# Altium schematic symbol library DJAHNG_Library_1.SchLib: 58 symbols
Pins are listed as number, name and electrical type; pins without a type are passive.

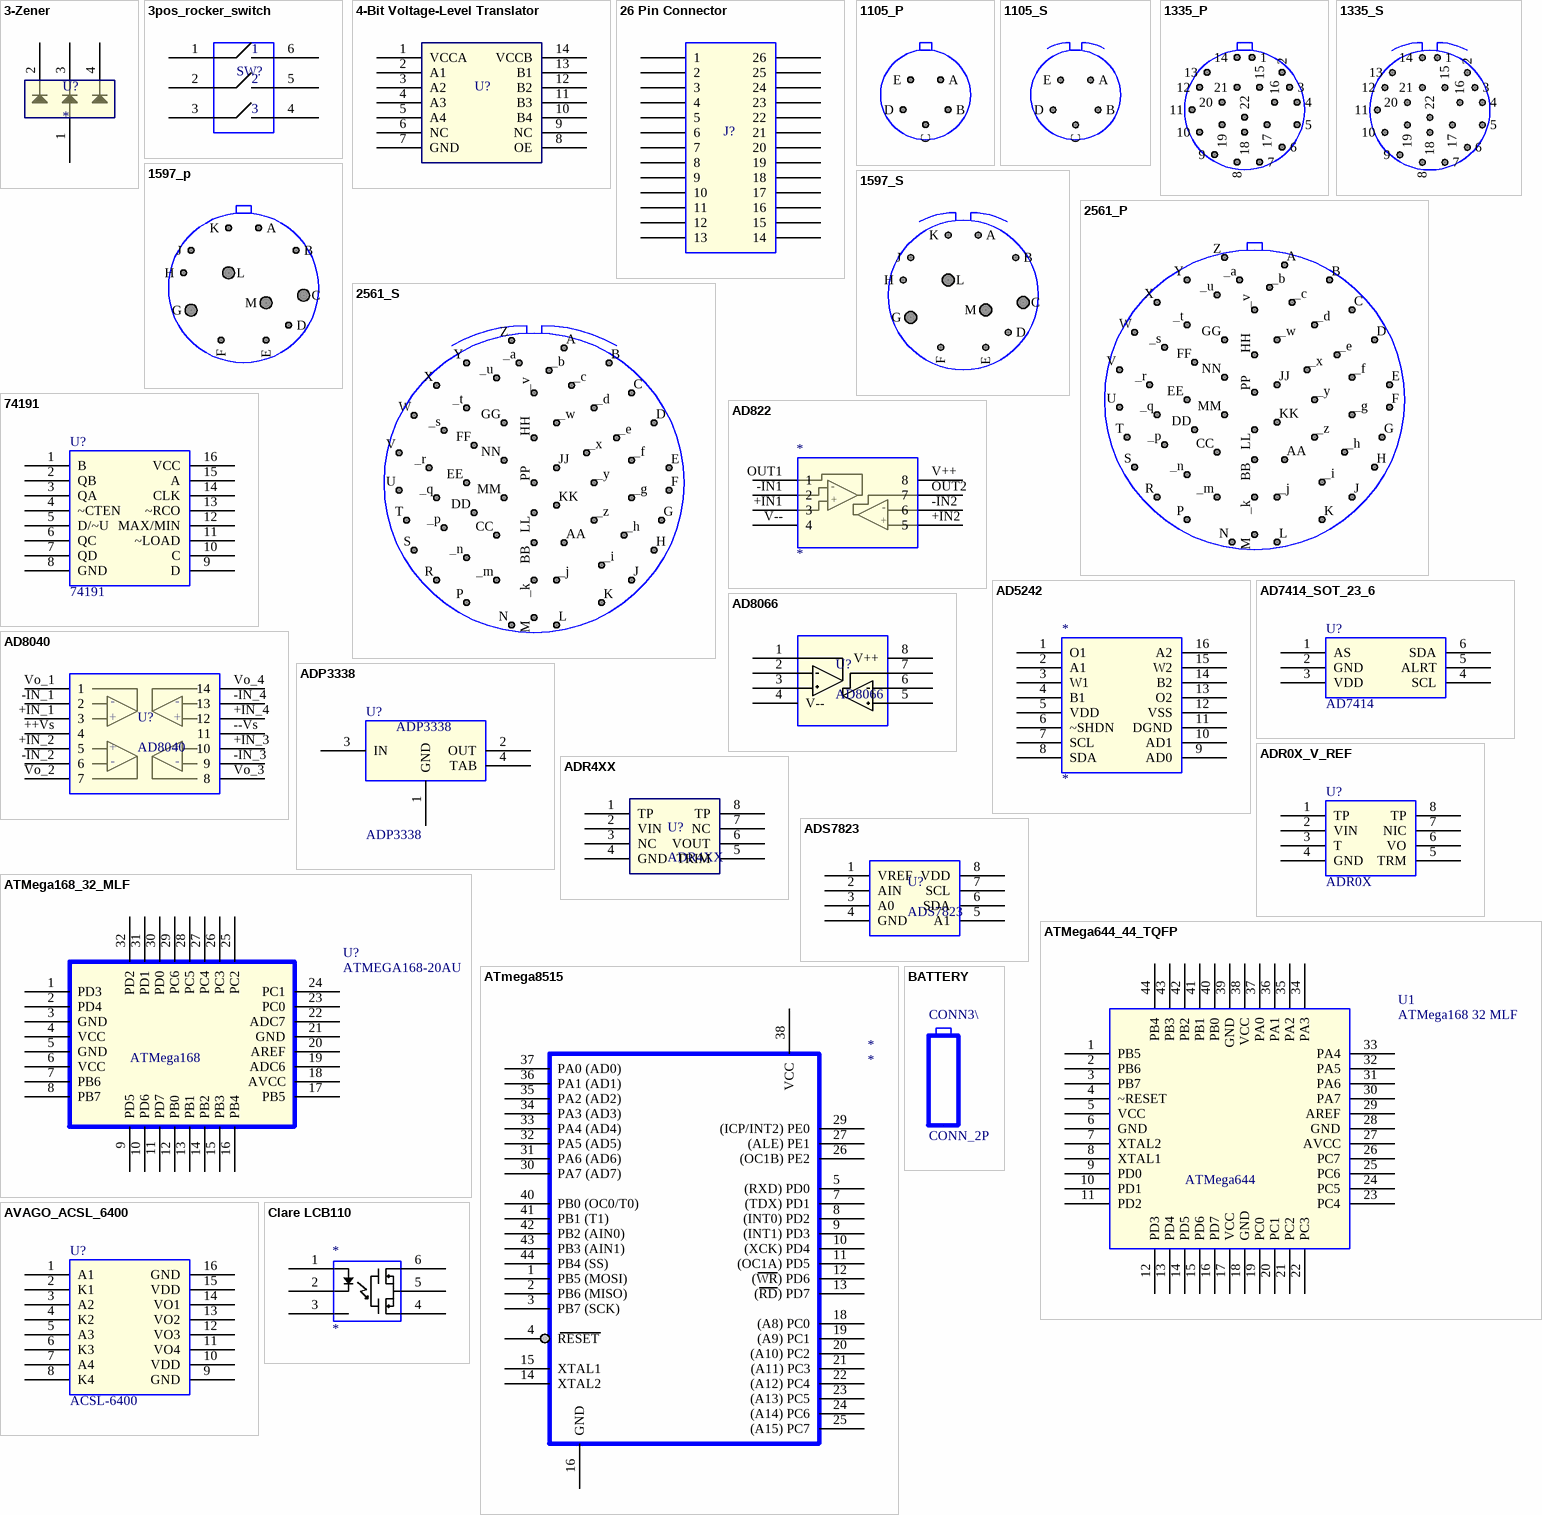
[diagram p0: symbols 3-Zener to Clare LCB110]

## 3-Zener
designator U?
footprint SOT-143 (Footprint not found)
pins: 1 A, 2 K1, 3 K2, 4 K3

## 3pos_rocker_switch
designator SW?, comment 3POS_ROCKER  (value not drawn)
Right: 20; Bottom: 20
pins: 1, 2, 3, 4, 5, 6

## 4-Bit Voltage-Level Translator
designator U?, comment Voltage-Level Translator  (value not drawn)
4-bit voltage level translator
footprint SOIC14_M (14-Pin Small Outline Integrated Circuit 1.27 mm Pitch, IPC Low Density)
pins: 1 VCCA, 2 A1, 3 A2, 4 A3, 5 A4, 6 NC, 7 GND, 8 OE, 9 NC, 10 B4, 11 B3, 12 B2, 13 B1, 14 VCCB

## 26 Pin Connector
designator J?
Right: 20; Bottom: 20
pins: 1, 2, 3, 4, 5, 6, 7, 8, 9, 10, 11, 12, 13, 14, 15, 16, 17, 18, 19, 20, 21, 22, 23, 24, 25, 26

## 1105_P
designator TITLEBLOCK, comment TITLEBLOCK  (value not drawn)  (no BOM)
LCOGT Titleblock
pins: A, B, C, D, E

## 1105_S
designator TITLEBLOCK, comment TITLEBLOCK  (value not drawn)  (no BOM)
LCOGT Titleblock
pins: A, B, C, D, E

## 1335_P
designator TITLEBLOCK, comment TITLEBLOCK  (value not drawn)  (no BOM)
LCOGT Titleblock
pins: 1, 2, 3, 4, 5, 6, 7, 8, 9, 10, 11, 12, 13, 14, 15, 16, 17, 18, 19, 20, 21, 22

## 1335_S
designator TITLEBLOCK, comment TITLEBLOCK  (value not drawn)  (no BOM)
LCOGT Titleblock
pins: 1, 2, 3, 4, 5, 6, 7, 8, 9, 10, 11, 12, 13, 14, 15, 16, 17, 18, 19, 20, 21, 22

## 1597_p
designator TITLEBLOCK, comment TITLEBLOCK  (value not drawn)  (no BOM)
LCOGT Titleblock
pins: A, B, C, D, E, F, G, H, J, K, L, M

## 1597_S
designator TITLEBLOCK, comment TITLEBLOCK  (value not drawn)  (no BOM)
LCOGT Titleblock
pins: A, B, C, D, E, F, G, H, J, K, L, M

## 2561_P
designator TITLEBLOCK, comment TITLEBLOCK  (value not drawn)  (no BOM)
LCOGT Titleblock
pins: _a, _b, _c, _d, _e, _f, _g, _h, _i, _j, _k, _m, _n, _p, _q, _r, _s, _t, _u, _v, _w, _x, _y, _z, A, AA, B, BB, C, CC, D, DD, E, EE, F, FF, G, GG, H, HH, J, JJ, K, KK, L, LL, M, MM, N, NN, P, PP, R, S, T, U, V, W, X, Y, Z

## 2561_S
designator TITLEBLOCK, comment TITLEBLOCK  (value not drawn)  (no BOM)
LCOGT Titleblock
pins: _a, _b, _c, _d, _e, _f, _g, _h, _i, _j, _k, _m, _n, _p, _q, _r, _s, _t, _u, _v, _w, _x, _y, _z, A, AA, B, BB, C, CC, D, DD, E, EE, F, FF, G, GG, H, HH, J, JJ, K, KK, L, LL, M, MM, N, NN, P, PP, R, S, T, U, V, W, X, Y, Z

## 74191
designator U?
Synchronous up/down counter with down/up mode control; Right: 10; Bottom: 20
pins: 1 B, 2 QB, 3 QA, 4 ~CTEN, 5 D/~U, 6 QC, 7 QD, 8 GND, 9 D, 10 C, 11 ~LOAD, 12 MAX/MIN, 13 ~RCO, 14 CLK, 15 A, 16 VCC

## AD822
designator *
Right: 20; Bottom: 30
pins: +IN1 3, +IN2 5, -IN1 2, -IN2 6, OUT1 1, OUT2 7, V++ 8, V-- 4
text: -; +

## AD5242
designator *
Right: 20; Bottom: 30
pins: 1 O1, 2 A1, 3 W1, 4 B1, 5 VDD, 6 ~SHDN, 7 SCL, 8 SDA, 9 AD0, 10 AD1, 11 DGND, 12 VSS, 13 O2, 14 B2, 15 W2, 16 A2

## AD7414_SOT_23_6
designator U?, comment AD7414
0.5 C Accurate, 10 Bit Digital Temperature Sensor, SOT-23-6; Right: 20; Bottom: 10
pins: 1 AS, 2 GND, 3 VDD, 4 SCL, 5 ALRT, 6 SDA

## AD8040
designator U?
Analog Devices AD8040 -- Quad Low Power, High Speed Rail-to-Rail Input/Output Amplifier; Right: 20; Bottom: 20
pins: ++Vs 4, +IN_1 3, +IN_2 5, +IN_3 10, +IN_4 12, --Vs 11, -IN_1 2, -IN_2 6, -IN_3 9, -IN_4 13, Vo_1 1, Vo_2 7, Vo_3 8, Vo_4 14
text: -; +

## AD8066
designator U?
Analog Devices High Performance, 145 MHz FastFET Op Amp; Right: 20; Bottom: 20
pins: 1, 2, 3, 4 V--, 5, 6, 7, 8 V++

## ADP3338
designator U?
High Accuracy, Ultralow I_Q, 1 A, anyCAP Low Dropout Regulator; Right: 20; Bottom: 20
footprint SOT223 (SOT-223/SC-73; 4 Leads; Body 6.7 x 7.3 mm, inc. leads (LxW max))
pins: 1 GND, 2 OUT, 3 IN, 4 TAB

## ADR0X_V_REF
designator U?, comment ADR0X
Ultracompact, Precision 10V, 5V, 2.5V, 3V Voltage References; Right: 30; Bottom: 110
pins: 1 TP, 2 VIN, 3 T, 4 GND, 5 TRM, 6 VO, 7 NIC, 8 TP

## ADR4XX
designator U?
Analog Devices ADR4XX Ultralow Noise, LDO XFET Voltage Reference
footprint D008_M (8-Pin Small Outline Integrated Circuit 1.27 mm Pitch, IPC Low Density)
pins: 1 TP, 2 VIN, 3 NC, 4 GND, 5 TRIM, 6 VOUT, 7 NC, 8 TP

## ADS7823
designator U?
TI ADS7823 12-bit I2C 1 channel ADC; Right: 20; Bottom: 20
pins: 1 VREF, 2 AIN, 3 A0, 4 GND, 5 A1, 6 SDA, 7 SCL, 8 VDD

## ATMega168_32_MLF
designator U?, comment ATMEGA168-20AU
Right: 20; Bottom: 40
footprint TQFP32_M (32-Pin Thin Quad Flat Pack 0.8 mm Pitch, IPC Low Density)
pins: 1 PD3, 2 PD4, 3 GND, 4 VCC, 5 GND, 6 VCC, 7 PB6, 8 PB7, 9 PD5, 10 PD6, 11 PD7, 12 PB0, 13 PB1, 14 PB2, 15 PB3, 16 PB4, 17 PB5, 18 AVCC, 19 ADC6, 20 AREF, 21 GND, 22 ADC7, 23 PC0, 24 PC1, 25 PC2, 26 PC3, 27 PC4, 28 PC5, 29 PC6, 30 PD0, 31 PD1, 32 PD2
text: ATMega168

## ATMega644_44_TQFP
designator U1, comment ATMega168 32 MLF
Right: 20; Bottom: 40
pins: 1 PB5, 2 PB6, 3 PB7, 4 ~RESET, 5 VCC, 6 GND, 7 XTAL2, 8 XTAL1, 9 PD0, 10 PD1, 11 PD2, 12 PD3, 13 PD4, 14 PD5, 15 PD6, 16 PD7, 17 VCC, 18 GND, 19 PC0, 20 PC1, 21 PC2, 22 PC3, 23 PC4, 24 PC5, 25 PC6, 26 PC7, 27 AVCC, 28 GND, 29 AREF, 30 PA7, 31 PA6, 32 PA5, 33 PA4, 34 PA3, 35 PA2, 36 PA1, 37 PA0, 38 VCC, 39 GND, 40 PB0, 41 PB1, 42 PB2, 43 PB3, 44 PB4
text: ATMega644

## ATmega8515
designator *
footprint 44A_L (44-Pin Thin Quad Flat Pack 0.8 mm Pitch, IPC High Density)
pins: 1 PB5 (MOSI), 2 PB6 (MISO), 3 PB7 (SCK), 4 RESET, 5 (RXD) PD0, 6 NC hidden, 7 (TDX) PD1, 8 (INT0) PD2, 9 (INT1) PD3, 10 (XCK) PD4, 11 (OC1A) PD5, 12 (WR) PD6, 13 (RD) PD7, 14 XTAL2, 15 XTAL1, 16 GND, 17 NC hidden, 18 (A8) PC0, 19 (A9) PC1, 20 (A10) PC2, 21 (A11) PC3, 22 (A12) PC4, 23 (A13) PC5, 24 (A14) PC6, 25 (A15) PC7, 26 (OC1B) PE2, 27 (ALE) PE1, 28 NC hidden, 29 (ICP/INT2) PE0, 30 PA7 (AD7), 31 PA6 (AD6), 32 PA5 (AD5), 33 PA4 (AD4), 34 PA3 (AD3), 35 PA2 (AD2), 36 PA1 (AD1), 37 PA0 (AD0), 38 VCC, 39 NC hidden, 40 PB0 (OC0/T0), 41 PB1 (T1), 42 PB2 (AIN0), 43 PB3 (AIN1), 44 PB4 (SS)

## AVAGO_ACSL_6400
designator U?, comment ACSL-6400
Avago ACSL-6400 Quad Channel Optocoupler; Right: 20; Bottom: 30
pins: 1 A1, 2 K1, 3 A2, 4 K2, 5 A3, 6 K3, 7 A4, 8 K4, 9 GND, 10 VDD, 11 VO4, 12 VO3, 13 VO2, 14 VO1, 15 VDD, 16 GND

## BATTERY
designator CONN3\, comment CONN_2P
MFG: *; MFG PN: *
pins: 1, 2

## Clare LCB110
designator *
footprint DIP6_SMD
pins: 1 C+, 2 C-, 3 NC, 4, 5, 6

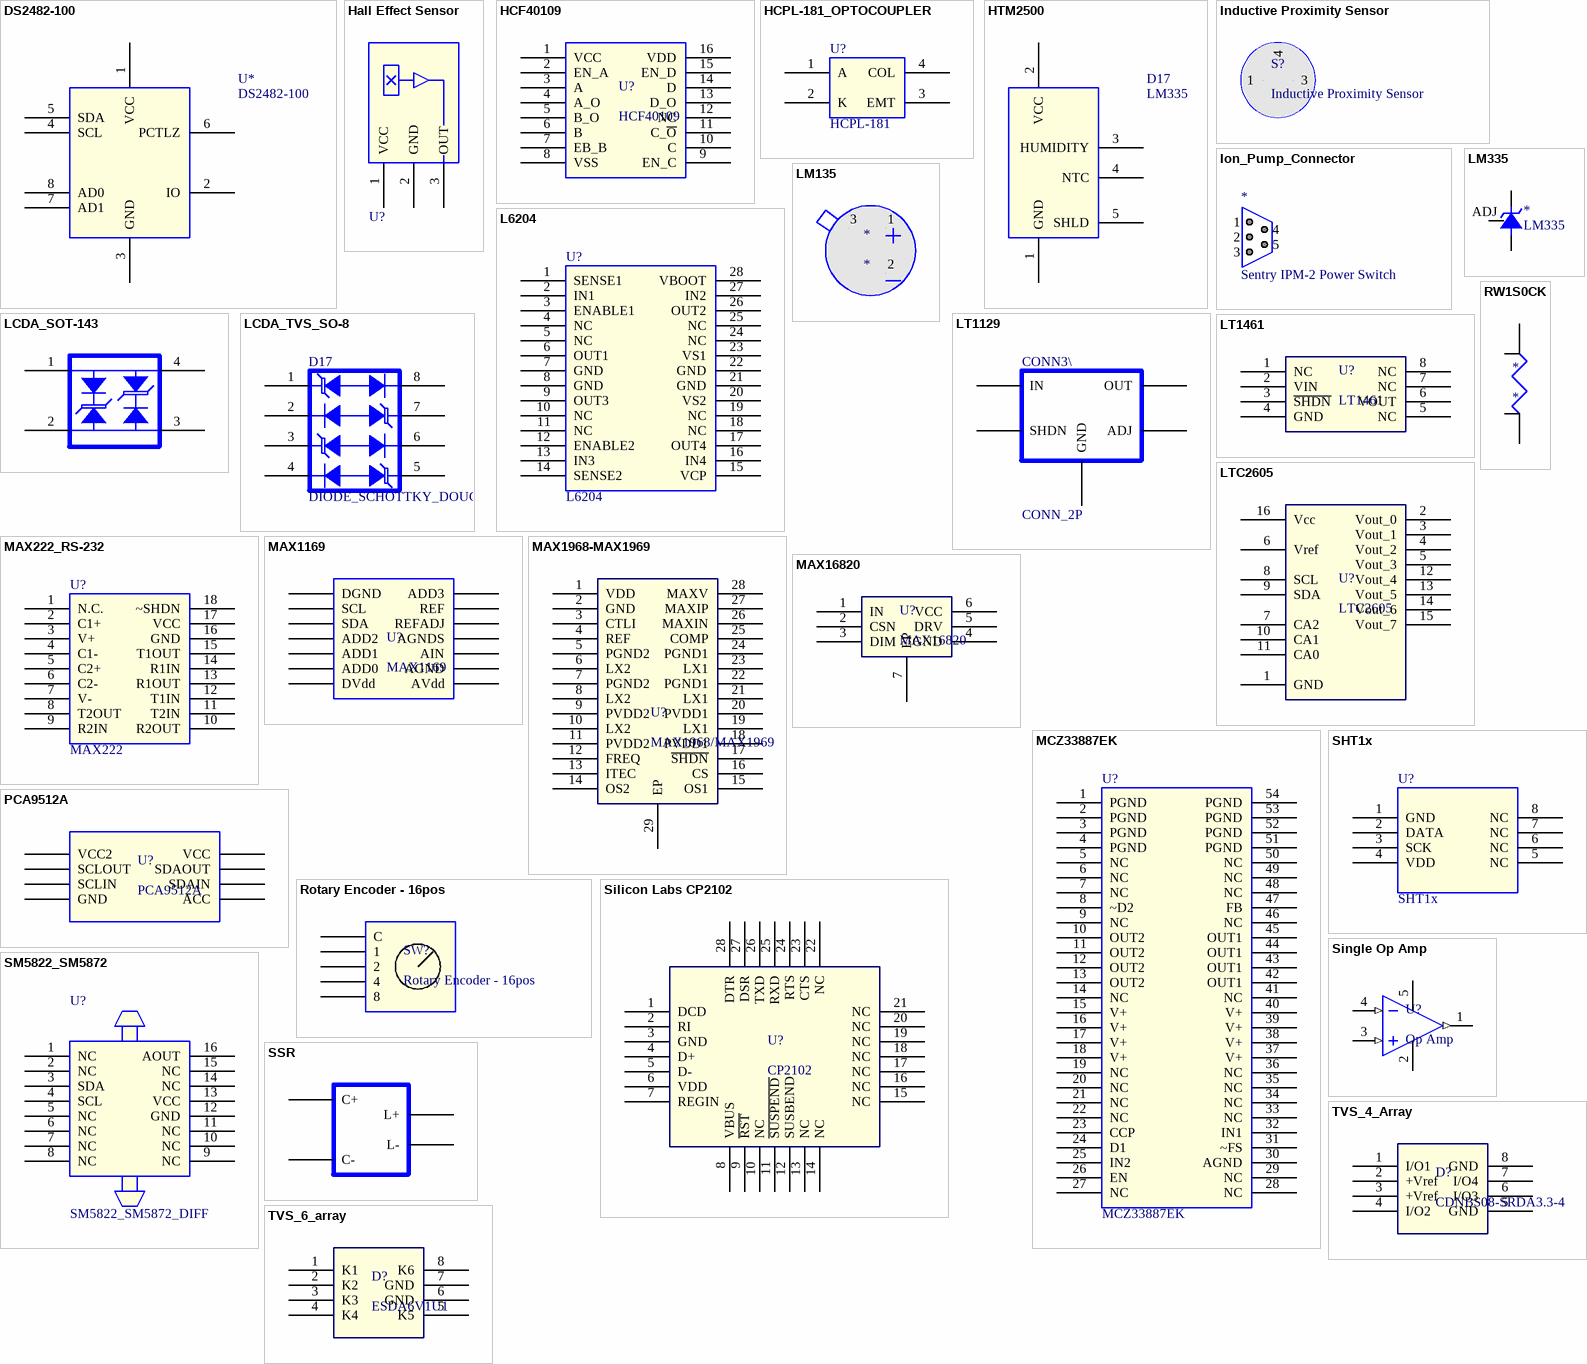
[diagram p1: symbols DS2482-100 to TVS_6_array]

## DS2482-100
designator U*  (no BOM)
LCOGT Titleblock
footprint NSO8_M (8-Pin Small Outline Integrated Circuit 1.27 mm Pitch, IPC Low Density)
pins: 1 VCC, 2 IO, 3 GND, 4 SCL, 5 SDA, 6 PCTLZ, 7 AD1, 8 AD0

## Hall Effect Sensor
designator U?, comment Hall_Effect_Sensor  (value not drawn)
Hall Effect Sensor; Right: 20; Bottom: 30
pins: 1 VCC, 2 GND, 3 OUT

## HCF40109
designator U?
Quad Low-to-High Voltage Level Shifter; Right: 20; Bottom: 20
pins: 1 VCC, 2 EN_A, 3 A, 4 A_O, 5 B_O, 6 B, 7 EB_B, 8 VSS, 9 EN_C, 10 C, 11 C_~{O}, 12 NC, 13 D_O, 14 D, 15 EN_D, 16 VDD

## HCPL-181_OPTOCOUPLER
designator U?, comment HCPL-181
HCPL-181 Single Phototransistor Optocoupler SMD Mini-Flat Type; Right: 20; Bottom: 30
pins: 1 A, 2 K, 3 EMT, 4 COL

## HTM2500
designator D17, comment LM335
Right: 20; Bottom: 20
pins: 1 GND, 2 VCC, 3 HUMIDITY, 4 NTC, 5 SHLD

## Inductive Proximity Sensor
designator S?
pins: 1, 3, 4

## Ion_Pump_Connector
designator *, comment Sentry IPM-2 Power Switch
pins: 1, 2, 3, 4, 5

## L6204
designator U?  (no BOM)
DMOS Dual Full Bridge Driver
pins: 1 SENSE1, 2 IN1, 3 ENABLE1, 4 NC, 5 NC, 6 OUT1, 7 GND, 8 GND, 9 OUT3, 10 NC, 11 NC, 12 ENABLE2, 13 IN3, 14 SENSE2, 15 VCP, 16 IN4, 17 OUT4, 18 NC, 19 NC, 20 VS2, 21 GND, 22 GND, 23 VS1, 24 NC, 25 NC, 26 OUT2, 27 IN2, 28 VBOOT

## LCDA_SOT-143
designator TITLEBLOCK, comment TITLEBLOCK  (value not drawn)  (no BOM)
LCOGT Titleblock
pins: 1, 2, 3, 4

## LCDA_TVS_SO-8
designator D17, comment DIODE_SCHOTTKY_DOUG
Right: 20; Bottom: 20
pins: 1, 2, 3, 4, 5, 6, 7, 8

## LM135
designator *
pins: 1, 2, 3

## LM335
designator *
MFG: *; MFG PN: *
pins: ADJ, ANOD, CATH

## LT1129
designator CONN3\, comment CONN_2P
MFG: *; MFG PN: *
pins: 1 OUT, 2 ADJ, 3 GND, 4 SHDN, 5 IN

## LT1461
designator U?
Linear LT1461 - Micropower Precision LDO Voltage Reference
footprint S8_M (8-Pin Small Outline Integrated Circuit 1.27 mm Pitch, IPC Low Density)
pins: 1 NC, 2 VIN, 3 ~{SHDN}, 4 GND, 5 NC, 6 VOUT, 7 NC, 8 NC

## LTC2605
designator U?
Linear Technology LTC2605, 8-Channel 16-Bit DAC
footprint GN16 (SSOP; 16 Leads; Body Width 3.9 mm; Pitch 0.635 mm)
pins: 1 GND, 2 Vout_0, 3 Vout_1, 4 Vout_2, 5 Vout_3, 6 Vref, 7 CA2, 8 SCL, 9 SDA, 10 CA1, 11 CA0, 12 Vout_4, 13 Vout_5, 14 Vout_6, 15 Vout_7, 16 Vcc

## MAX222_RS-232
designator U?, comment MAX222  (no BOM)
LCOGT Titleblock
footprint WSO18_M (18-Pin Small Outline Integrated Circuit 1.27 mm Pitch, IPC Low Density)
pins: 1 N.C., 2 C1+, 3 V+, 4 C1-, 5 C2+, 6 C2-, 7 V-, 8 T2OUT, 9 R2IN, 10 R2OUT, 11 T2IN, 12 T1IN, 13 R1OUT, 14 R1IN, 15 T1OUT, 16 GND, 17 VCC, 18 ~SHDN

## MAX1169
designator U?
Maxim SAR ADC, 58.6ksps, 16-Bit, 2-Wire Serial ADC in a 14-Pin TSSOP; Right: 20; Bottom: 20
pins: 1 DGND, 2 SCL, 3 SDA, 4 ADD2, 5 ADD1, 6 ADD0, 7 DVdd, 8 AVdd, 9 AGND, 10 AIN, 11 AGNDS, 12 REFADJ, 13 REF, 14 ADD3

## MAX1968-MAX1969
designator U?, comment MAX1968/MAX1969
Maxim IC MAX1968/MAX1969 Power Driver for Peltier TEC Modules
pins: 1 VDD, 2 GND, 3 CTLI, 4 REF, 5 PGND2, 6 LX2, 7 PGND2, 8 LX2, 9 PVDD2, 10 LX2, 11 PVDD2, 12 FREQ, 13 ITEC, 14 OS2, 15 OS1, 16 CS, 17 ~{SHDN}, 18 PVDD1, 19 LX1, 20 PVDD1, 21 LX1, 22 PGND1, 23 LX1, 24 PGND1, 25 COMP, 26 MAXIN, 27 MAXIP, 28 MAXV, 29 EP

## MAX16820
designator U?
MAX16820, 2MHz High-Brightness LED Driver with High-Side Current Sense and 5000:1 Dimming
footprint TQFN-6
pins: 1 IN, 2 CSN, 3 DIM, 4 GND, 5 DRV, 6 VCC, 7 EP

## MCZ33887EK
designator U?  (no BOM)
5.0 A H-Bridge with Load Current Feedback
pins: 1 PGND, 2 PGND, 3 PGND, 4 PGND, 5 NC, 6 NC, 7 NC, 8 ~D2, 9 NC, 10 OUT2, 11 OUT2, 12 OUT2, 13 OUT2, 14 NC, 15 V+, 16 V+, 17 V+, 18 V+, 19 NC, 20 NC, 21 NC, 22 NC, 23 CCP, 24 D1, 25 IN2, 26 EN, 27 NC, 28 NC, 29 NC, 30 AGND, 31 ~FS, 32 IN1, 33 NC, 34 NC, 35 NC, 36 NC, 37 V+, 38 V+, 39 V+, 40 V+, 41 NC, 42 OUT1, 43 OUT1, 44 OUT1, 45 OUT1, 46 NC, 47 FB, 48 NC, 49 NC, 50 NC, 51 PGND, 52 PGND, 53 PGND, 54 PGND, 55 PAD hidden to PGND

## PCA9512A
designator U?
Philips Semiconductors PCA9512A Level shifting hot-swappable I2C-bus and SMBus bus buffer; Right: 20; Bottom: 20
pins: 1 VCC2, 2 SCLOUT, 3 SCLIN, 4 GND, 5 ACC, 6 SDAIN, 7 SDAOUT, 8 VCC

## Rotary Encoder - 16pos
designator SW?
16 position (4 bit) rotary encoder; Right: 20; Bottom: 20
pins: 1 C, 2 1, 3 2, 4, 5 8

## RW1S0CK
designator *
footprint Ohmite Current Sense Resistor
pins: 1, 2, 3, 4

## SHT1x
designator U?
SHT1x Humidity and Temperature Sensor, Surface Mount; Right: 20; Bottom: 10
pins: 1 GND, 2 DATA, 3 SCK, 4 VDD, 5 NC, 6 NC, 7 NC, 8 NC

## Silicon Labs CP2102
designator U?, comment CP2102
Silicon Labs CP2102 USB to UART Bridge IC, 5mm x 5mm 28-QFN
pins: 1 DCD, 2 RI, 3 GND, 4 D+, 5 D-, 6 VDD, 7 REGIN, 8 VBUS, 9 ~{RST}, 10 NC, 11 ~{SUSPEND}, 12 SUSBEND, 13 NC, 14 NC, 15 NC, 16 NC, 17 NC, 18 NC, 19 NC, 20 NC, 21 NC, 22 NC, 23 CTS, 24 RTS, 25 RXD, 26 TXD, 27 DSR, 28 DTR, 29 GND hidden to GND, 30 GND hidden to GND

## Single Op Amp
designator U?, comment Op Amp
pins: 1 (out), 2 (power), 3 (in), 4 (in), 5 (power)

## SM5822_SM5872
designator U?, comment SM5822_SM5872_DIFF
Co-Integrated Pressure Sensor, Differential; Right: 20; Bottom: 30
pins: 1 NC, 2 NC, 3 SDA, 4 SCL, 5 NC, 6 NC, 7 NC, 8 NC, 9 NC, 10 NC, 11 NC, 12 GND, 13 VCC, 14 NC, 15 NC, 16 AOUT

## SSR
designator TITLEBLOCK, comment TITLEBLOCK  (value not drawn)  (no BOM)
LCOGT Titleblock
pins: 1 L+, 2 L-, 3 C+, 4 C-

## TVS_4_Array
designator D?, comment CDNBS08-SRDA3.3-4
TVS 4 line array, bidirectional, 3.3V
footprint D008_M (Footprint not found)
pins: 1 I/O1, 2 +Vref, 3 +Vref, 4 I/O2, 5 GND, 6 I/O3, 7 I/O4, 8 GND

## TVS_6_array
designator D?, comment ESDA6V1U1
Unidirection hex TVS diode array
footprint D008_M (Footprint not found)
pins: 1 K1, 2 K2, 3 K3, 4 K4, 5 K5, 6 GND, 7 GND, 8 K6